# Altium schematic symbol library TRANS,IGBT,600V,200A,IXXX200N60C3.Schlib: 1 symbol
Pins are listed as number, name and electrical type; pins without a type are passive.

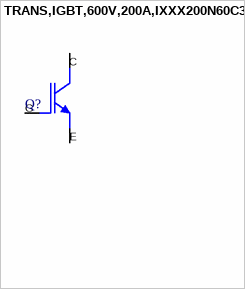
[diagram p0: symbol TRANS,IGBT,600V,200A,IXXX200N60C3]

## TRANS,IGBT,600V,200A,IXXX200N60C3
designator Q?
pins: 1 G, 2 C, 3 E